# EAGLE library part 9802 (library df4iah_relay)
Surface Mount Reed Relays Source: COTO TECHNOLOGY - 9852-03-00 - RELAY - 91349.pdf
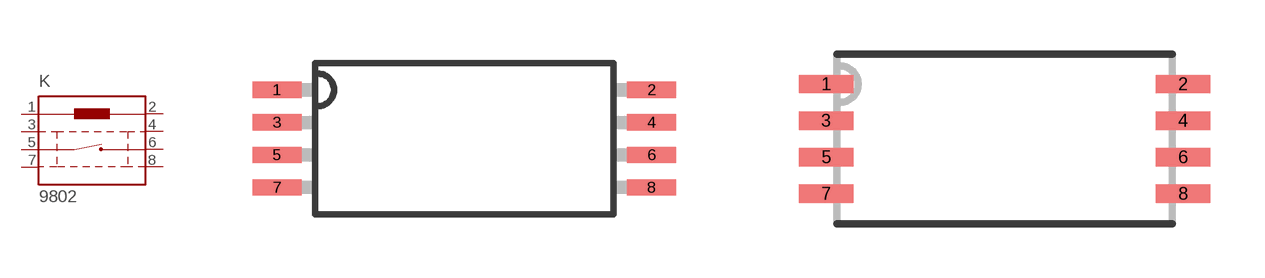
[diagram p148: symbol with the pads of 9802-00; footprints 9802-00, 9802-20]

Designator prefix K

## 9802-03-00 (OC_FARNELL: unknown; OC_NEWARK: unknown), 9802-05-00 (MF: COTO TECHNOLOGY; MPN: 9802-05-00; OC_FARNELL: 1081689; OC_NEWARK: 16F3689)  [9802-00]
1  1  pas
2  2  pas
3  3  pas
4  4  pas
5  5  pas
6  6  pas
7  7  pas
8  8  pas

## 9802-03-20 (OC_FARNELL: unknown; OC_NEWARK: unknown), 9802-05-20 (MF: COTO TECHNOLOGY; MPN: 9802-05-20; OC_FARNELL: 1081633; OC_NEWARK: 92F3367)  [9802-20]
Pads as for 9802-00

## Footprint 9802-00 (pad centres in mm)
Surface Mount Reed Relays Gull Wing Source: COTO TECHNOLOGY - 9852-03-00 - RELAY - 91349.pdf
smd 1.524 x 0.508: 1 -5.842,1.524; 2 5.842,1.524; 3 -5.842,0.508; 4 5.842,0.508; 5 -5.842,-0.508; 6 5.842,-0.508; 7 -5.842,-1.524; 8 5.842,-1.524

## Footprint 9802-20 (pad centres in mm)
Surface Mount Reed Relays J-Lead Source: COTO TECHNOLOGY - 9852-03-00 - RELAY - 91349.pdf
smd 1.524 x 0.508: 1 -4.953,1.524; 2 4.953,1.524; 3 -4.953,0.508; 4 4.953,0.508; 5 -4.953,-0.508; 6 4.953,-0.508; 7 -4.953,-1.524; 8 4.953,-1.524